# Altium schematic symbol library jlcpcb_2025_04_ferrites_extended_0402.schlib: 536 symbols (part 3 of 10)
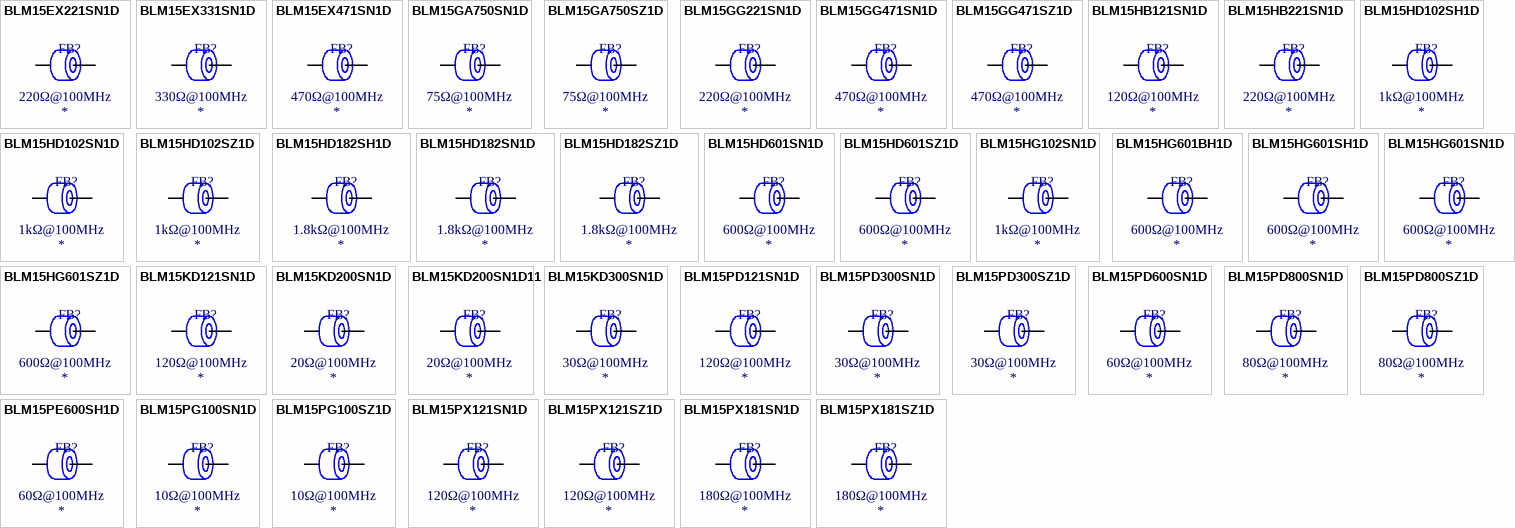
[diagram p15: symbols BLM15EX221SN1D to BLM15PX181SZ1D]

## BLM15PD600SN1D
designator FB?  Impedance @ Frequency: 60Ω@100MHz
Ferrite, 60Ω@100MHz, ±25%, 60mΩ, 1.7A, SMD 0402; Manufacturer: Murata Electronics; Manufacturer Part Number: BLM15PD600SN1D; Package Size: 0402; JLCPCB Basic Part: No; JLCPCB Part Number: C88969; Supplier 1: LCSC; Category: Ferrite Beads; Supplier Part Number 1: C88969; Tolerance: ±25%; Rated Current: 1.7A; DC Resistance: 60mΩ; RoHS: Yes; ComponentLink1Description: Datasheet; ComponentLink1URL: https://wmsc.lcsc.com/wmsc/upload/file/pdf/v2/lcsc/2304140030_Murata-Electronics-BLM15PD600SN1D_C88969.pdf; ComponentLink2Description: JLCPCB Part URL; ComponentLink2URL: https://jlcpcb.com/partdetail/C88969; ComponentLink3Description: LCSC Part URL; ComponentLink3URL: https://lcsc.com/product-detail/Ferrite-Beads_Murata-Electronics-Murata-Electronics-BLM15PD600SN1D_C88969.html
footprint FB-0402 (0402 (1005M) Ferrite)
pins: 1, 2

## BLM15PD800SN1D
designator FB?  Impedance @ Frequency: 80Ω@100MHz
Ferrite, 80Ω@100MHz, ±25%, 70mΩ, 1.5A, SMD 0402; Manufacturer: Murata Electronics; Manufacturer Part Number: BLM15PD800SN1D; Package Size: 0402; JLCPCB Basic Part: No; JLCPCB Part Number: C237347; Supplier 1: LCSC; Category: Ferrite Beads; Supplier Part Number 1: C237347; Tolerance: ±25%; Rated Current: 1.5A; DC Resistance: 70mΩ; RoHS: Yes; ComponentLink1Description: Datasheet; ComponentLink1URL: https://wmsc.lcsc.com/wmsc/upload/file/pdf/v2/lcsc/2304140030_Murata-Electronics-BLM15PD800SN1D_C237347.pdf; ComponentLink2Description: JLCPCB Part URL; ComponentLink2URL: https://jlcpcb.com/partdetail/C237347; ComponentLink3Description: LCSC Part URL; ComponentLink3URL: https://lcsc.com/product-detail/Ferrite-Beads_Murata-Electronics-Murata-Electronics-BLM15PD800SN1D_C237347.html
footprint FB-0402 (0402 (1005M) Ferrite)
pins: 1, 2

## BLM15PD800SZ1D
designator FB?  Impedance @ Frequency: 80Ω@100MHz
Ferrite, 80Ω@100MHz, ±25%, 70mΩ, 1.5A, SMD 0402; Manufacturer: Murata Electronics; Manufacturer Part Number: BLM15PD800SZ1D; Package Size: 0402; JLCPCB Basic Part: No; JLCPCB Part Number: C160972; Supplier 1: LCSC; Category: Ferrite Beads; Supplier Part Number 1: C160972; Tolerance: ±25%; Rated Current: 1.5A; DC Resistance: 70mΩ; RoHS: Yes; ComponentLink1Description: Datasheet; ComponentLink1URL: https://wmsc.lcsc.com/wmsc/upload/file/pdf/v2/lcsc/1811081513_Murata-Electronics-BLM15PD800SZ1D_C160972.pdf; ComponentLink2Description: JLCPCB Part URL; ComponentLink2URL: https://jlcpcb.com/partdetail/C160972; ComponentLink3Description: LCSC Part URL; ComponentLink3URL: https://lcsc.com/product-detail/Ferrite-Beads_Murata-Electronics-Murata-Electronics-BLM15PD800SZ1D_C160972.html
footprint FB-0402 (0402 (1005M) Ferrite)
pins: 1, 2

## BLM15PE600SH1D
designator FB?  Impedance @ Frequency: 60Ω@100MHz
Ferrite, 60Ω@100MHz, 60mΩ, SMD 0402; Manufacturer: Murata Electronics; Manufacturer Part Number: BLM15PE600SH1D; Package Size: 0402; JLCPCB Basic Part: No; JLCPCB Part Number: C3716993; Supplier 1: LCSC; Category: Ferrite Beads; Supplier Part Number 1: C3716993; DC Resistance: 60mΩ; RoHS: Yes; ComponentLink1Description: Datasheet; ComponentLink1URL: https://wmsc.lcsc.com/wmsc/upload/file/pdf/v2/lcsc/2401161242_Murata-Electronics-BLM15PE600SH1D_C3716993.pdf; ComponentLink2Description: JLCPCB Part URL; ComponentLink2URL: https://jlcpcb.com/partdetail/C3716993; ComponentLink3Description: LCSC Part URL; ComponentLink3URL: https://lcsc.com/product-detail/Ferrite-Beads_Murata-Electronics-Murata-Electronics-BLM15PE600SH1D_C3716993.html
pins: 1, 2

## BLM15PG100SN1D
designator FB?  Impedance @ Frequency: 10Ω@100MHz
Ferrite, 10Ω@100MHz, ±25%, 25mΩ, 1A, SMD 0402; Manufacturer: Murata Electronics; Manufacturer Part Number: BLM15PG100SN1D; Package Size: 0402; JLCPCB Basic Part: No; JLCPCB Part Number: C85823; Supplier 1: LCSC; Category: Ferrite Beads; Supplier Part Number 1: C85823; Tolerance: ±25%; Rated Current: 1A; DC Resistance: 25mΩ; RoHS: Yes; ComponentLink1Description: Datasheet; ComponentLink1URL: https://wmsc.lcsc.com/wmsc/upload/file/pdf/v2/lcsc/2304140030_Murata-Electronics-BLM15PG100SN1D_C85823.pdf; ComponentLink2Description: JLCPCB Part URL; ComponentLink2URL: https://jlcpcb.com/partdetail/C85823; ComponentLink3Description: LCSC Part URL; ComponentLink3URL: https://lcsc.com/product-detail/Ferrite-Beads_Murata-Electronics-Murata-Electronics-BLM15PG100SN1D_C85823.html
footprint FB-0402 (0402 (1005M) Ferrite)
pins: 1, 2

## BLM15PG100SZ1D
designator FB?  Impedance @ Frequency: 10Ω@100MHz
Ferrite, 10Ω@100MHz, ±25%, 250mΩ, 1A, SMD 0402; Manufacturer: Murata Electronics; Manufacturer Part Number: BLM15PG100SZ1D; Package Size: 0402; JLCPCB Basic Part: No; JLCPCB Part Number: C2661915; Supplier 1: LCSC; Category: Ferrite Beads; Supplier Part Number 1: C2661915; Tolerance: ±25%; Rated Current: 1A; DC Resistance: 250mΩ; RoHS: Yes; ComponentLink1Description: Datasheet; ComponentLink1URL: https://wmsc.lcsc.com/wmsc/upload/file/pdf/v2/lcsc/2304140030_Murata-Electronics-BLM15PG100SZ1D_C2661915.pdf; ComponentLink2Description: JLCPCB Part URL; ComponentLink2URL: https://jlcpcb.com/partdetail/C2661915; ComponentLink3Description: LCSC Part URL; ComponentLink3URL: https://lcsc.com/product-detail/Ferrite-Beads_Murata-Electronics-Murata-Electronics-BLM15PG100SZ1D_C2661915.html
footprint FB-0402 (0402 (1005M) Ferrite)
pins: 1, 2

## BLM15PX121SN1D
designator FB?  Impedance @ Frequency: 120Ω@100MHz
Ferrite, 120Ω@100MHz, ±25%, 55mΩ, 2A, SMD 0402; Manufacturer: Murata Electronics; Manufacturer Part Number: BLM15PX121SN1D; Package Size: 0402; JLCPCB Basic Part: No; JLCPCB Part Number: C88970; Supplier 1: LCSC; Category: Ferrite Beads; Supplier Part Number 1: C88970; Tolerance: ±25%; Rated Current: 2A; DC Resistance: 55mΩ; RoHS: Yes; ComponentLink1Description: Datasheet; ComponentLink1URL: https://wmsc.lcsc.com/wmsc/upload/file/pdf/v2/lcsc/2304140030_Murata-Electronics-BLM15PX121SN1D_C88970.pdf; ComponentLink2Description: JLCPCB Part URL; ComponentLink2URL: https://jlcpcb.com/partdetail/C88970; ComponentLink3Description: LCSC Part URL; ComponentLink3URL: https://lcsc.com/product-detail/Ferrite-Beads_Murata-Electronics-Murata-Electronics-BLM15PX121SN1D_C88970.html
footprint FB-0402 (0402 (1005M) Ferrite)
pins: 1, 2

## BLM15PX121SZ1D
designator FB?  Impedance @ Frequency: 120Ω@100MHz
Ferrite, 120Ω@100MHz, ±25%, 55mΩ, 2A, SMD 0402; Manufacturer: Murata Electronics; Manufacturer Part Number: BLM15PX121SZ1D; Package Size: 0402; JLCPCB Basic Part: No; JLCPCB Part Number: C701266; Supplier 1: LCSC; Category: Ferrite Beads; Supplier Part Number 1: C701266; Tolerance: ±25%; Rated Current: 2A; DC Resistance: 55mΩ; RoHS: Yes; ComponentLink1Description: Datasheet; ComponentLink1URL: https://wmsc.lcsc.com/wmsc/upload/file/pdf/v2/lcsc/2304140030_Murata-Electronics-BLM15PX121SZ1D_C701266.pdf; ComponentLink2Description: JLCPCB Part URL; ComponentLink2URL: https://jlcpcb.com/partdetail/C701266; ComponentLink3Description: LCSC Part URL; ComponentLink3URL: https://lcsc.com/product-detail/Ferrite-Beads_Murata-Electronics-Murata-Electronics-BLM15PX121SZ1D_C701266.html
footprint FB-0402 (0402 (1005M) Ferrite)
pins: 1, 2

## BLM15PX181SN1D
designator FB?  Impedance @ Frequency: 180Ω@100MHz
Ferrite, 180Ω@100MHz, ±25%, 90mΩ, 1.5A, SMD 0402; Manufacturer: Murata Electronics; Manufacturer Part Number: BLM15PX181SN1D; Package Size: 0402; JLCPCB Basic Part: No; JLCPCB Part Number: C237601; Supplier 1: LCSC; Category: Ferrite Beads; Supplier Part Number 1: C237601; Tolerance: ±25%; Rated Current: 1.5A; DC Resistance: 90mΩ; RoHS: Yes; ComponentLink1Description: Datasheet; ComponentLink1URL: https://wmsc.lcsc.com/wmsc/upload/file/pdf/v2/lcsc/2304140030_Murata-Electronics-BLM15PX181SN1D_C237601.pdf; ComponentLink2Description: JLCPCB Part URL; ComponentLink2URL: https://jlcpcb.com/partdetail/C237601; ComponentLink3Description: LCSC Part URL; ComponentLink3URL: https://lcsc.com/product-detail/Ferrite-Beads_Murata-Electronics-Murata-Electronics-BLM15PX181SN1D_C237601.html
footprint FB-0402 (0402 (1005M) Ferrite)
pins: 1, 2

## BLM15PX181SZ1D
designator FB?  Impedance @ Frequency: 180Ω@100MHz
Ferrite, 180Ω@100MHz, 90mΩ, 1.5A, SMD 0402; Manufacturer: Murata Electronics; Manufacturer Part Number: BLM15PX181SZ1D; Package Size: 0402; JLCPCB Basic Part: No; JLCPCB Part Number: C560034; Supplier 1: LCSC; Category: Ferrite Beads; Supplier Part Number 1: C560034; Rated Current: 1.5A; DC Resistance: 90mΩ; RoHS: Yes; ComponentLink1Description: Datasheet; ComponentLink1URL: https://wmsc.lcsc.com/wmsc/upload/file/pdf/v2/lcsc/2308111441_Murata-Electronics-BLM15PX181SZ1D_C560034.pdf; ComponentLink2Description: JLCPCB Part URL; ComponentLink2URL: https://jlcpcb.com/partdetail/C560034; ComponentLink3Description: LCSC Part URL; ComponentLink3URL: https://lcsc.com/product-detail/Ferrite-Beads_Murata-Electronics-Murata-Electronics-BLM15PX181SZ1D_C560034.html
pins: 1, 2

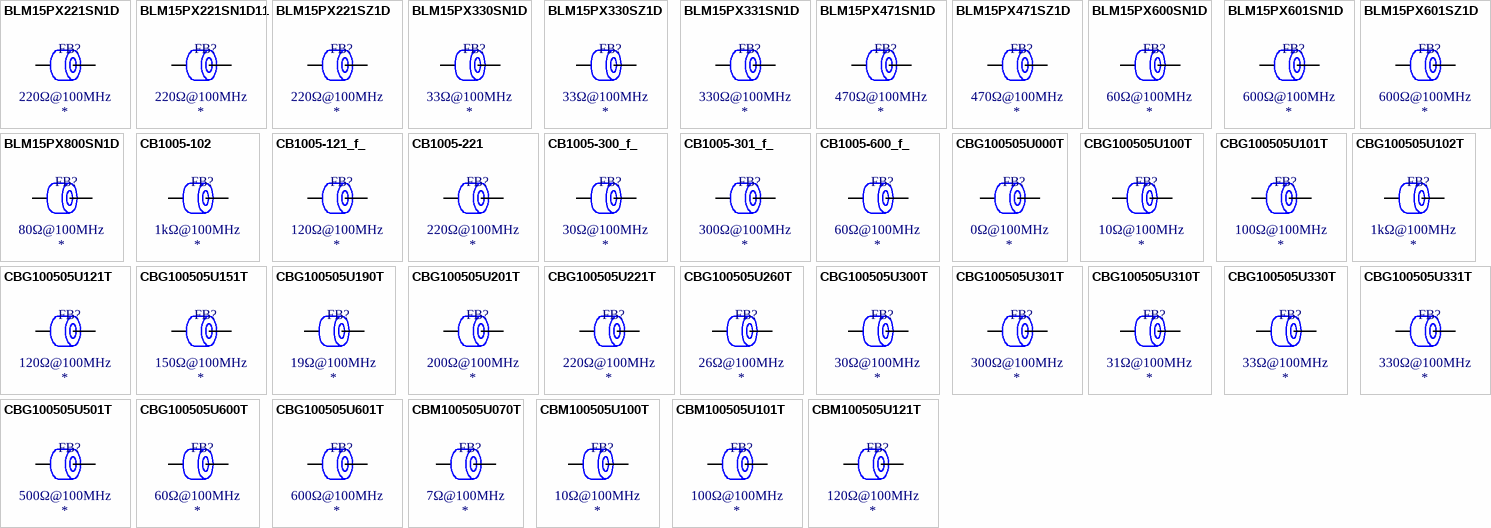
[diagram p3: symbols BLM15PX221SN1D to CBM100505U121T]

## BLM15PX221SN1D
designator FB?  Impedance @ Frequency: 220Ω@100MHz
Ferrite, 220Ω@100MHz, ±25%, 100mΩ, 1.4A, SMD 0402; Manufacturer: Murata Electronics; Manufacturer Part Number: BLM15PX221SN1D; Package Size: 0402; JLCPCB Basic Part: No; JLCPCB Part Number: C160973; Supplier 1: LCSC; Category: Ferrite Beads; Supplier Part Number 1: C160973; Tolerance: ±25%; Rated Current: 1.4A; DC Resistance: 100mΩ; RoHS: Yes; ComponentLink1Description: Datasheet; ComponentLink1URL: https://wmsc.lcsc.com/wmsc/upload/file/pdf/v2/lcsc/1811081514_Murata-Electronics-BLM15PX221SN1D_C160973.pdf; ComponentLink2Description: JLCPCB Part URL; ComponentLink2URL: https://jlcpcb.com/partdetail/C160973; ComponentLink3Description: LCSC Part URL; ComponentLink3URL: https://lcsc.com/product-detail/Ferrite-Beads_Murata-Electronics-Murata-Electronics-BLM15PX221SN1D_C160973.html
footprint FB-0402 (0402 (1005M) Ferrite)
pins: 1, 2

## BLM15PX221SN1D11
designator FB?  Impedance @ Frequency: 220Ω@100MHz
Ferrite, 220Ω@100MHz, ±25%, 100mΩ, 1.4A, SMD 0402; Manufacturer: Murata Electronics; Manufacturer Part Number: BLM15PX221SN1D11; Package Size: 0402; JLCPCB Basic Part: No; JLCPCB Part Number: C560059; Supplier 1: LCSC; Category: Ferrite Beads; Supplier Part Number 1: C560059; Tolerance: ±25%; Rated Current: 1.4A; DC Resistance: 100mΩ; RoHS: Yes; ComponentLink1Description: Datasheet; ComponentLink1URL: https://wmsc.lcsc.com/wmsc/upload/file/pdf/v2/lcsc/2304140030_Murata-Electronics-BLM15PX221SN1D11_C560059.pdf; ComponentLink2Description: JLCPCB Part URL; ComponentLink2URL: https://jlcpcb.com/partdetail/C560059; ComponentLink3Description: LCSC Part URL; ComponentLink3URL: https://lcsc.com/product-detail/Ferrite-Beads_Murata-Electronics-Murata-Electronics-BLM15PX221SN1D11_C560059.html
footprint FB-0402 (0402 (1005M) Ferrite)
pins: 1, 2

## BLM15PX221SZ1D
designator FB?  Impedance @ Frequency: 220Ω@100MHz
Ferrite, 220Ω@100MHz, ±25%, 100mΩ, 1.4A, SMD 0402; Manufacturer: Murata Electronics; Manufacturer Part Number: BLM15PX221SZ1D; Package Size: 0402; JLCPCB Basic Part: No; JLCPCB Part Number: C560050; Supplier 1: LCSC; Category: Ferrite Beads; Supplier Part Number 1: C560050; Tolerance: ±25%; Rated Current: 1.4A; DC Resistance: 100mΩ; RoHS: Yes; ComponentLink1Description: Datasheet; ComponentLink1URL: https://wmsc.lcsc.com/wmsc/upload/file/pdf/v2/lcsc/2304140030_Murata-Electronics-BLM15PX221SZ1D_C560050.pdf; ComponentLink2Description: JLCPCB Part URL; ComponentLink2URL: https://jlcpcb.com/partdetail/C560050; ComponentLink3Description: LCSC Part URL; ComponentLink3URL: https://lcsc.com/product-detail/Ferrite-Beads_Murata-Electronics-Murata-Electronics-BLM15PX221SZ1D_C560050.html
footprint FB-0402 (0402 (1005M) Ferrite)
pins: 1, 2

## BLM15PX330SN1D
designator FB?  Impedance @ Frequency: 33Ω@100MHz
Ferrite, 33Ω@100MHz, ±25%, 22mΩ, 3A, SMD 0402; Manufacturer: Murata Electronics; Manufacturer Part Number: BLM15PX330SN1D; Package Size: 0402; JLCPCB Basic Part: No; JLCPCB Part Number: C160974; Supplier 1: LCSC; Category: Ferrite Beads; Supplier Part Number 1: C160974; Tolerance: ±25%; Rated Current: 3A; DC Resistance: 22mΩ; RoHS: Yes; ComponentLink1Description: Datasheet; ComponentLink1URL: https://wmsc.lcsc.com/wmsc/upload/file/pdf/v2/lcsc/2302071130_Murata-Electronics-BLM15PX330SN1D_C160974.pdf; ComponentLink2Description: JLCPCB Part URL; ComponentLink2URL: https://jlcpcb.com/partdetail/C160974; ComponentLink3Description: LCSC Part URL; ComponentLink3URL: https://lcsc.com/product-detail/Ferrite-Beads_Murata-Electronics-Murata-Electronics-BLM15PX330SN1D_C160974.html
footprint FB-0402 (0402 (1005M) Ferrite)
pins: 1, 2

## BLM15PX330SZ1D
designator FB?  Impedance @ Frequency: 33Ω@100MHz
Ferrite, 33Ω@100MHz, ±25%, 22mΩ, 3A, SMD 0402; Manufacturer: Murata Electronics; Manufacturer Part Number: BLM15PX330SZ1D; Package Size: 0402; JLCPCB Basic Part: No; JLCPCB Part Number: C2661673; Supplier 1: LCSC; Category: Ferrite Beads; Supplier Part Number 1: C2661673; Tolerance: ±25%; Rated Current: 3A; DC Resistance: 22mΩ; RoHS: Yes; ComponentLink1Description: Datasheet; ComponentLink1URL: https://wmsc.lcsc.com/wmsc/upload/file/pdf/v2/lcsc/2304140030_Murata-Electronics-BLM15PX330SZ1D_C2661673.pdf; ComponentLink2Description: JLCPCB Part URL; ComponentLink2URL: https://jlcpcb.com/partdetail/C2661673; ComponentLink3Description: LCSC Part URL; ComponentLink3URL: https://lcsc.com/product-detail/Ferrite-Beads_Murata-Electronics-Murata-Electronics-BLM15PX330SZ1D_C2661673.html
footprint FB-0402 (0402 (1005M) Ferrite)
pins: 1, 2

## BLM15PX331SN1D
designator FB?  Impedance @ Frequency: 330Ω@100MHz
Ferrite, 330Ω@100MHz, ±25%, 150mΩ, 1.2A, SMD 0402; Manufacturer: Murata Electronics; Manufacturer Part Number: BLM15PX331SN1D; Package Size: 0402; JLCPCB Basic Part: No; JLCPCB Part Number: C160975; Supplier 1: LCSC; Category: Ferrite Beads; Supplier Part Number 1: C160975; Tolerance: ±25%; Rated Current: 1.2A; DC Resistance: 150mΩ; RoHS: Yes; ComponentLink1Description: Datasheet; ComponentLink1URL: https://wmsc.lcsc.com/wmsc/upload/file/pdf/v2/lcsc/2304140030_Murata-Electronics-BLM15PX331SN1D_C160975.pdf; ComponentLink2Description: JLCPCB Part URL; ComponentLink2URL: https://jlcpcb.com/partdetail/C160975; ComponentLink3Description: LCSC Part URL; ComponentLink3URL: https://lcsc.com/product-detail/Ferrite-Beads_Murata-Electronics-Murata-Electronics-BLM15PX331SN1D_C160975.html
footprint FB-0402 (0402 (1005M) Ferrite)
pins: 1, 2

## BLM15PX471SN1D
designator FB?  Impedance @ Frequency: 470Ω@100MHz
Ferrite, 470Ω@100MHz, ±25%, 200mΩ, 1A, SMD 0402; Manufacturer: Murata Electronics; Manufacturer Part Number: BLM15PX471SN1D; Package Size: 0402; JLCPCB Basic Part: No; JLCPCB Part Number: C333978; Supplier 1: LCSC; Category: Ferrite Beads; Supplier Part Number 1: C333978; Tolerance: ±25%; Rated Current: 1A; DC Resistance: 200mΩ; RoHS: Yes; ComponentLink1Description: Datasheet; ComponentLink1URL: https://wmsc.lcsc.com/wmsc/upload/file/pdf/v2/lcsc/1912111437_Murata-Electronics-BLM15PX471SN1D_C333978.pdf; ComponentLink2Description: JLCPCB Part URL; ComponentLink2URL: https://jlcpcb.com/partdetail/C333978; ComponentLink3Description: LCSC Part URL; ComponentLink3URL: https://lcsc.com/product-detail/Ferrite-Beads_Murata-Electronics-Murata-Electronics-BLM15PX471SN1D_C333978.html
footprint FB-0402 (0402 (1005M) Ferrite)
pins: 1, 2

## BLM15PX471SZ1D
designator FB?  Impedance @ Frequency: 470Ω@100MHz
Ferrite, 470Ω@100MHz, ±25%, 200mΩ, 1A, SMD 0402; Manufacturer: Murata Electronics; Manufacturer Part Number: BLM15PX471SZ1D; Package Size: 0402; JLCPCB Basic Part: No; JLCPCB Part Number: C710346; Supplier 1: LCSC; Category: Ferrite Beads; Supplier Part Number 1: C710346; Tolerance: ±25%; Rated Current: 1A; DC Resistance: 200mΩ; RoHS: Yes; ComponentLink1Description: Datasheet; ComponentLink1URL: https://wmsc.lcsc.com/wmsc/upload/file/pdf/v2/lcsc/2012231244_Murata-Electronics-BLM15PX471SZ1D_C710346.pdf; ComponentLink2Description: JLCPCB Part URL; ComponentLink2URL: https://jlcpcb.com/partdetail/C710346; ComponentLink3Description: LCSC Part URL; ComponentLink3URL: https://lcsc.com/product-detail/Ferrite-Beads_Murata-Electronics-Murata-Electronics-BLM15PX471SZ1D_C710346.html
footprint FB-0402 (0402 (1005M) Ferrite)
pins: 1, 2

## BLM15PX600SN1D
designator FB?  Impedance @ Frequency: 60Ω@100MHz
Ferrite, 60Ω@100MHz, ±25%, 32mΩ, 2.5A, SMD 0402; Manufacturer: Murata Electronics; Manufacturer Part Number: BLM15PX600SN1D; Package Size: 0402; JLCPCB Basic Part: No; JLCPCB Part Number: C160976; Supplier 1: LCSC; Category: Ferrite Beads; Supplier Part Number 1: C160976; Tolerance: ±25%; Rated Current: 2.5A; DC Resistance: 32mΩ; RoHS: Yes; ComponentLink1Description: Datasheet; ComponentLink1URL: https://wmsc.lcsc.com/wmsc/upload/file/pdf/v2/lcsc/2304140030_Murata-Electronics-BLM15PX600SN1D_C160976.pdf; ComponentLink2Description: JLCPCB Part URL; ComponentLink2URL: https://jlcpcb.com/partdetail/C160976; ComponentLink3Description: LCSC Part URL; ComponentLink3URL: https://lcsc.com/product-detail/Ferrite-Beads_Murata-Electronics-Murata-Electronics-BLM15PX600SN1D_C160976.html
footprint FB-0402 (0402 (1005M) Ferrite)
pins: 1, 2

## BLM15PX601SN1D
designator FB?  Impedance @ Frequency: 600Ω@100MHz
Ferrite, 600Ω@100MHz, ±25%, 230mΩ, 900mA, SMD 0402; Manufacturer: Murata Electronics; Manufacturer Part Number: BLM15PX601SN1D; Package Size: 0402; JLCPCB Basic Part: No; JLCPCB Part Number: C160977; Supplier 1: LCSC; Category: Ferrite Beads; Supplier Part Number 1: C160977; Tolerance: ±25%; Rated Current: 900mA; DC Resistance: 230mΩ; RoHS: Yes; ComponentLink1Description: Datasheet; ComponentLink1URL: https://wmsc.lcsc.com/wmsc/upload/file/pdf/v2/lcsc/2304140030_Murata-Electronics-BLM15PX601SN1D_C160977.pdf; ComponentLink2Description: JLCPCB Part URL; ComponentLink2URL: https://jlcpcb.com/partdetail/C160977; ComponentLink3Description: LCSC Part URL; ComponentLink3URL: https://lcsc.com/product-detail/Ferrite-Beads_Murata-Electronics-Murata-Electronics-BLM15PX601SN1D_C160977.html
footprint FB-0402 (0402 (1005M) Ferrite)
pins: 1, 2

## BLM15PX601SZ1D
designator FB?  Impedance @ Frequency: 600Ω@100MHz
Ferrite, 600Ω@100MHz, ±25%, 230mΩ, 900mA, SMD 0402; Manufacturer: Murata Electronics; Manufacturer Part Number: BLM15PX601SZ1D; Package Size: 0402; JLCPCB Basic Part: No; JLCPCB Part Number: C710347; Supplier 1: LCSC; Category: Ferrite Beads; Supplier Part Number 1: C710347; Tolerance: ±25%; Rated Current: 900mA; DC Resistance: 230mΩ; RoHS: Yes; ComponentLink1Description: Datasheet; ComponentLink1URL: https://wmsc.lcsc.com/wmsc/upload/file/pdf/v2/lcsc/2304140030_Murata-Electronics-BLM15PX601SZ1D_C710347.pdf; ComponentLink2Description: JLCPCB Part URL; ComponentLink2URL: https://jlcpcb.com/partdetail/C710347; ComponentLink3Description: LCSC Part URL; ComponentLink3URL: https://lcsc.com/product-detail/Ferrite-Beads_Murata-Electronics-Murata-Electronics-BLM15PX601SZ1D_C710347.html
footprint FB-0402 (0402 (1005M) Ferrite)
pins: 1, 2

## BLM15PX800SN1D
designator FB?  Impedance @ Frequency: 80Ω@100MHz
Ferrite, 80Ω@100MHz, ±25%, 38mΩ, 2.3A, SMD 0402; Manufacturer: Murata Electronics; Manufacturer Part Number: BLM15PX800SN1D; Package Size: 0402; JLCPCB Basic Part: No; JLCPCB Part Number: C160978; Supplier 1: LCSC; Category: Ferrite Beads; Supplier Part Number 1: C160978; Tolerance: ±25%; Rated Current: 2.3A; DC Resistance: 38mΩ; RoHS: Yes; ComponentLink1Description: Datasheet; ComponentLink1URL: https://wmsc.lcsc.com/wmsc/upload/file/pdf/v2/lcsc/1811081543_Murata-Electronics-BLM15PX800SN1D_C160978.pdf; ComponentLink2Description: JLCPCB Part URL; ComponentLink2URL: https://jlcpcb.com/partdetail/C160978; ComponentLink3Description: LCSC Part URL; ComponentLink3URL: https://lcsc.com/product-detail/Ferrite-Beads_Murata-Electronics-Murata-Electronics-BLM15PX800SN1D_C160978.html
footprint FB-0402 (0402 (1005M) Ferrite)
pins: 1, 2

## CB1005-102
designator FB?  Impedance @ Frequency: 1kΩ@100MHz
Ferrite, 1kΩ@100MHz, ±25%, 1.6Ω, 50mA, SMD 0402; Manufacturer: CEC(Shenzhen Zhenhua Fu Elec); Manufacturer Part Number: CB1005-102; Package Size: 0402; JLCPCB Basic Part: No; JLCPCB Part Number: C316271; Supplier 1: LCSC; Category: Ferrite Beads; Supplier Part Number 1: C316271; Tolerance: ±25%; Rated Current: 50mA; DC Resistance: 1.6Ω; RoHS: Yes; ComponentLink1Description: Datasheet; ComponentLink1URL: https://wmsc.lcsc.com/wmsc/upload/file/pdf/v2/lcsc/2304140030_CEC-Shenzhen-Zhenhua-Fu-Elec-CB1005-102_C316271.pdf; ComponentLink2Description: JLCPCB Part URL; ComponentLink2URL: https://jlcpcb.com/partdetail/C316271; ComponentLink3Description: LCSC Part URL; ComponentLink3URL: https://lcsc.com/product-detail/Ferrite-Beads_CECShenzhen-Zhenhua-Fu-Elec-CECShenzhen-Zhenhua-Fu-Elec-CB1005-102_C316271.html
footprint FB-0402 (0402 (1005M) Ferrite)
pins: 1, 2

## CB1005-121_f_
designator FB?  Impedance @ Frequency: 120Ω@100MHz
Ferrite, 120Ω@100MHz, ±25%, SMD 0402; Manufacturer: CEC(Shenzhen Zhenhua Fu Elec); Manufacturer Part Number: CB1005-121(f); Package Size: 0402; JLCPCB Basic Part: No; JLCPCB Part Number: C316270; Supplier 1: LCSC; Category: Ferrite Beads; Supplier Part Number 1: C316270; Tolerance: ±25%; RoHS: Yes; ComponentLink1Description: Datasheet; ComponentLink1URL: https://wmsc.lcsc.com/wmsc/upload/file/pdf/v2/lcsc/2304140030_CEC-Shenzhen-Zhenhua-Fu-Elec-CB1005-121-f_C316270.pdf; ComponentLink2Description: JLCPCB Part URL; ComponentLink2URL: https://jlcpcb.com/partdetail/C316270; ComponentLink3Description: LCSC Part URL; ComponentLink3URL: https://lcsc.com/product-detail/Ferrite-Beads_CECShenzhen-Zhenhua-Fu-Elec-CECShenzhen-Zhenhua-Fu-Elec-CB1005-121f_C316270.html
pins: 1, 2

## CB1005-221
designator FB?  Impedance @ Frequency: 220Ω@100MHz
Ferrite, 220Ω@100MHz, ±25%, 650mΩ, 120mA, SMD 0402; Manufacturer: CEC(Shenzhen Zhenhua Fu Elec); Manufacturer Part Number: CB1005-221; Package Size: 0402; JLCPCB Basic Part: No; JLCPCB Part Number: C316269; Supplier 1: LCSC; Category: Ferrite Beads; Supplier Part Number 1: C316269; Tolerance: ±25%; Rated Current: 120mA; DC Resistance: 650mΩ; RoHS: Yes; ComponentLink1Description: Datasheet; ComponentLink1URL: https://wmsc.lcsc.com/wmsc/upload/file/pdf/v2/lcsc/2304140030_CEC-Shenzhen-Zhenhua-Fu-Elec-CB1005-221_C316269.pdf; ComponentLink2Description: JLCPCB Part URL; ComponentLink2URL: https://jlcpcb.com/partdetail/C316269; ComponentLink3Description: LCSC Part URL; ComponentLink3URL: https://lcsc.com/product-detail/Ferrite-Beads_CECShenzhen-Zhenhua-Fu-Elec-CECShenzhen-Zhenhua-Fu-Elec-CB1005-221_C316269.html
footprint FB-0402 (0402 (1005M) Ferrite)
pins: 1, 2

## CB1005-300_f_
designator FB?  Impedance @ Frequency: 30Ω@100MHz
Ferrite, 30Ω@100MHz, ±25%, 200mΩ, 300mA, SMD 0402; Manufacturer: CEC(Shenzhen Zhenhua Fu Elec); Manufacturer Part Number: CB1005-300(f); Package Size: 0402; JLCPCB Basic Part: No; JLCPCB Part Number: C316268; Supplier 1: LCSC; Category: Ferrite Beads; Supplier Part Number 1: C316268; Tolerance: ±25%; Rated Current: 300mA; DC Resistance: 200mΩ; RoHS: Yes; ComponentLink1Description: Datasheet; ComponentLink1URL: https://wmsc.lcsc.com/wmsc/upload/file/pdf/v2/lcsc/2304140030_CEC-Shenzhen-Zhenhua-Fu-Elec-CB1005-300-f_C316268.pdf; ComponentLink2Description: JLCPCB Part URL; ComponentLink2URL: https://jlcpcb.com/partdetail/C316268; ComponentLink3Description: LCSC Part URL; ComponentLink3URL: https://lcsc.com/product-detail/Ferrite-Beads_CECShenzhen-Zhenhua-Fu-Elec-CECShenzhen-Zhenhua-Fu-Elec-CB1005-300f_C316268.html
footprint FB-0402 (0402 (1005M) Ferrite)
pins: 1, 2

## CB1005-301_f_
designator FB?  Impedance @ Frequency: 300Ω@100MHz
Ferrite, 300Ω@100MHz, ±25%, 700mΩ, 100mA, SMD 0402; Manufacturer: CEC(Shenzhen Zhenhua Fu Elec); Manufacturer Part Number: CB1005-301(f); Package Size: 0402; JLCPCB Basic Part: No; JLCPCB Part Number: C361683; Supplier 1: LCSC; Category: Ferrite Beads; Supplier Part Number 1: C361683; Tolerance: ±25%; Rated Current: 100mA; DC Resistance: 700mΩ; RoHS: Yes; ComponentLink1Description: Datasheet; ComponentLink1URL: https://wmsc.lcsc.com/wmsc/upload/file/pdf/v2/lcsc/2304140030_CEC-Shenzhen-Zhenhua-Fu-Elec-CB1005-301-f_C361683.pdf; ComponentLink2Description: JLCPCB Part URL; ComponentLink2URL: https://jlcpcb.com/partdetail/C361683; ComponentLink3Description: LCSC Part URL; ComponentLink3URL: https://lcsc.com/product-detail/Ferrite-Beads_CECShenzhen-Zhenhua-Fu-Elec-CECShenzhen-Zhenhua-Fu-Elec-CB1005-301f_C361683.html
footprint FB-0402 (0402 (1005M) Ferrite)
pins: 1, 2

## CB1005-600_f_
designator FB?  Impedance @ Frequency: 60Ω@100MHz
Ferrite, 60Ω@100MHz, ±25%, 300mΩ, 200mA, SMD 0402; Manufacturer: CEC(Shenzhen Zhenhua Fu Elec); Manufacturer Part Number: CB1005-600(f); Package Size: 0402; JLCPCB Basic Part: No; JLCPCB Part Number: C316267; Supplier 1: LCSC; Category: Ferrite Beads; Supplier Part Number 1: C316267; Tolerance: ±25%; Rated Current: 200mA; DC Resistance: 300mΩ; RoHS: Yes; ComponentLink1Description: Datasheet; ComponentLink1URL: https://wmsc.lcsc.com/wmsc/upload/file/pdf/v2/lcsc/2304140030_CEC-Shenzhen-Zhenhua-Fu-Elec-CB1005-600-f_C316267.pdf; ComponentLink2Description: JLCPCB Part URL; ComponentLink2URL: https://jlcpcb.com/partdetail/C316267; ComponentLink3Description: LCSC Part URL; ComponentLink3URL: https://lcsc.com/product-detail/Ferrite-Beads_CECShenzhen-Zhenhua-Fu-Elec-CECShenzhen-Zhenhua-Fu-Elec-CB1005-600f_C316267.html
footprint FB-0402 (0402 (1005M) Ferrite)
pins: 1, 2

## CBG100505U000T
designator FB?  Impedance @ Frequency: 0Ω@100MHz
Ferrite, 0Ω@100MHz, 100mΩ, 300mA, SMD 0402; Manufacturer: FH(Guangdong Fenghua Advanced Tech); Manufacturer Part Number: CBG100505U000T; Package Size: 0402; JLCPCB Basic Part: No; JLCPCB Part Number: C139137; Supplier 1: LCSC; Category: Ferrite Beads; Supplier Part Number 1: C139137; Rated Current: 300mA; DC Resistance: 100mΩ; RoHS: Yes; ComponentLink1Description: Datasheet; ComponentLink1URL: https://wmsc.lcsc.com/wmsc/upload/file/pdf/v2/lcsc/2304140030_FH--Guangdong-Fenghua-Advanced-Tech-CBG100505U000T_C139137.pdf; ComponentLink2Description: JLCPCB Part URL; ComponentLink2URL: https://jlcpcb.com/partdetail/C139137; ComponentLink3Description: LCSC Part URL; ComponentLink3URL: https://lcsc.com/product-detail/Ferrite-Beads_FH-Guangdong-Fenghua-Advanced-Tech-FH-Guangdong-Fenghua-Advanced-Tech-CBG100505U000T_C139137.html
pins: 1, 2

## CBG100505U100T
designator FB?  Impedance @ Frequency: 10Ω@100MHz
Ferrite, 10Ω@100MHz, 100mΩ, 300mA, SMD 0402; Manufacturer: FH(Guangdong Fenghua Advanced Tech); Manufacturer Part Number: CBG100505U100T; Package Size: 0402; JLCPCB Basic Part: No; JLCPCB Part Number: C316454; Supplier 1: LCSC; Category: Ferrite Beads; Supplier Part Number 1: C316454; Rated Current: 300mA; DC Resistance: 100mΩ; RoHS: Yes; ComponentLink1Description: Datasheet; ComponentLink1URL: https://wmsc.lcsc.com/wmsc/upload/file/pdf/v2/lcsc/1912111437_FH--Guangdong-Fenghua-Advanced-Tech-CBG100505U100T_C316454.pdf; ComponentLink2Description: JLCPCB Part URL; ComponentLink2URL: https://jlcpcb.com/partdetail/C316454; ComponentLink3Description: LCSC Part URL; ComponentLink3URL: https://lcsc.com/product-detail/Ferrite-Beads_FH-Guangdong-Fenghua-Advanced-Tech-FH-Guangdong-Fenghua-Advanced-Tech-CBG100505U100T_C316454.html
pins: 1, 2

## CBG100505U101T
designator FB?  Impedance @ Frequency: 100Ω@100MHz
Ferrite, 100Ω@100MHz, ±25%, 500mΩ, 150mA, SMD 0402; Manufacturer: FH(Guangdong Fenghua Advanced Tech); Manufacturer Part Number: CBG100505U101T; Package Size: 0402; JLCPCB Basic Part: No; JLCPCB Part Number: C139138; Supplier 1: LCSC; Category: Ferrite Beads; Supplier Part Number 1: C139138; Tolerance: ±25%; Rated Current: 150mA; DC Resistance: 500mΩ; RoHS: Yes; ComponentLink1Description: Datasheet; ComponentLink1URL: https://wmsc.lcsc.com/wmsc/upload/file/pdf/v2/lcsc/2304140030_FH--Guangdong-Fenghua-Advanced-Tech-CBG100505U101T_C139138.pdf; ComponentLink2Description: JLCPCB Part URL; ComponentLink2URL: https://jlcpcb.com/partdetail/C139138; ComponentLink3Description: LCSC Part URL; ComponentLink3URL: https://lcsc.com/product-detail/Ferrite-Beads_FH-Guangdong-Fenghua-Advanced-Tech-FH-Guangdong-Fenghua-Advanced-Tech-CBG100505U101T_C139138.html
footprint FB-0402 (0402 (1005M) Ferrite)
pins: 1, 2

## CBG100505U102T
designator FB?  Impedance @ Frequency: 1kΩ@100MHz
Ferrite, 1kΩ@100MHz, ±25%, 1.6Ω, 25mA, SMD 0402; Manufacturer: FH(Guangdong Fenghua Advanced Tech); Manufacturer Part Number: CBG100505U102T; Package Size: 0402; JLCPCB Basic Part: No; JLCPCB Part Number: C124090; Supplier 1: LCSC; Category: Ferrite Beads; Supplier Part Number 1: C124090; Tolerance: ±25%; Rated Current: 25mA; DC Resistance: 1.6Ω; RoHS: Yes; ComponentLink1Description: Datasheet; ComponentLink1URL: https://wmsc.lcsc.com/wmsc/upload/file/pdf/v2/lcsc/2304140030_FH--Guangdong-Fenghua-Advanced-Tech-CBG100505U102T_C124090.pdf; ComponentLink2Description: JLCPCB Part URL; ComponentLink2URL: https://jlcpcb.com/partdetail/C124090; ComponentLink3Description: LCSC Part URL; ComponentLink3URL: https://lcsc.com/product-detail/Ferrite-Beads_FH-Guangdong-Fenghua-Advanced-Tech-FH-Guangdong-Fenghua-Advanced-Tech-CBG100505U102T_C124090.html
footprint FB-0402 (0402 (1005M) Ferrite)
pins: 1, 2

## CBG100505U121T
designator FB?  Impedance @ Frequency: 120Ω@100MHz
Ferrite, 120Ω@100MHz, ±25%, 500mΩ, 150mA, SMD 0402; Manufacturer: FH(Guangdong Fenghua Advanced Tech); Manufacturer Part Number: CBG100505U121T; Package Size: 0402; JLCPCB Basic Part: No; JLCPCB Part Number: C92616; Supplier 1: LCSC; Category: Ferrite Beads; Supplier Part Number 1: C92616; Tolerance: ±25%; Rated Current: 150mA; DC Resistance: 500mΩ; RoHS: Yes; ComponentLink1Description: Datasheet; ComponentLink1URL: https://wmsc.lcsc.com/wmsc/upload/file/pdf/v2/lcsc/2304140030_FH--Guangdong-Fenghua-Advanced-Tech-CBG100505U121T_C92616.pdf; ComponentLink2Description: JLCPCB Part URL; ComponentLink2URL: https://jlcpcb.com/partdetail/C92616; ComponentLink3Description: LCSC Part URL; ComponentLink3URL: https://lcsc.com/product-detail/Ferrite-Beads_FH-Guangdong-Fenghua-Advanced-Tech-FH-Guangdong-Fenghua-Advanced-Tech-CBG100505U121T_C92616.html
footprint FB-0402 (0402 (1005M) Ferrite)
pins: 1, 2

## CBG100505U151T
designator FB?  Impedance @ Frequency: 150Ω@100MHz
Ferrite, 150Ω@100MHz, ±25%, 550mΩ, 150mA, SMD 0402; Manufacturer: FH(Guangdong Fenghua Advanced Tech); Manufacturer Part Number: CBG100505U151T; Package Size: 0402; JLCPCB Basic Part: No; JLCPCB Part Number: C160612; Supplier 1: LCSC; Category: Ferrite Beads; Supplier Part Number 1: C160612; Tolerance: ±25%; Rated Current: 150mA; DC Resistance: 550mΩ; RoHS: Yes; ComponentLink1Description: Datasheet; ComponentLink1URL: https://wmsc.lcsc.com/wmsc/upload/file/pdf/v2/lcsc/2304140030_FH--Guangdong-Fenghua-Advanced-Tech-CBG100505U151T_C160612.pdf; ComponentLink2Description: JLCPCB Part URL; ComponentLink2URL: https://jlcpcb.com/partdetail/C160612; ComponentLink3Description: LCSC Part URL; ComponentLink3URL: https://lcsc.com/product-detail/Ferrite-Beads_FH-Guangdong-Fenghua-Advanced-Tech-FH-Guangdong-Fenghua-Advanced-Tech-CBG100505U151T_C160612.html
footprint FB-0402 (0402 (1005M) Ferrite)
pins: 1, 2

## CBG100505U190T
designator FB?  Impedance @ Frequency: 19Ω@100MHz
Ferrite, 19Ω@100MHz, 100mΩ, 300mA, SMD 0402; Manufacturer: FH (Guangdong Fenghua Advanced Tech); Manufacturer Part Number: CBG100505U190T; Package Size: 0402; JLCPCB Basic Part: No; JLCPCB Part Number: C2991174; Supplier 1: LCSC; Category: Ferrite Beads; Supplier Part Number 1: C2991174; Rated Current: 300mA; DC Resistance: 100mΩ; RoHS: Yes; ComponentLink1Description: Datasheet; ComponentLink1URL: https://wmsc.lcsc.com/wmsc/upload/file/pdf/v2/lcsc/2204111630_FH--Guangdong-Fenghua-Advanced-Tech-CBG100505U190T_C2991174.pdf; ComponentLink2Description: JLCPCB Part URL; ComponentLink2URL: https://jlcpcb.com/partdetail/C2991174; ComponentLink3Description: LCSC Part URL; ComponentLink3URL: https://lcsc.com/product-detail/Ferrite-Beads_FH-Guangdong-Fenghua-Advanced-Tech-FH-Guangdong-Fenghua-Advanced-Tech-CBG100505U190T_C2991174.html
pins: 1, 2

## CBG100505U201T
designator FB?  Impedance @ Frequency: 200Ω@100MHz
Ferrite, 200Ω@100MHz, ±25%, 600mΩ, 100mA, SMD 0402; Manufacturer: FH(Guangdong Fenghua Advanced Tech); Manufacturer Part Number: CBG100505U201T; Package Size: 0402; JLCPCB Basic Part: No; JLCPCB Part Number: C668228; Supplier 1: LCSC; Category: Ferrite Beads; Supplier Part Number 1: C668228; Tolerance: ±25%; Rated Current: 100mA; DC Resistance: 600mΩ; RoHS: Yes; ComponentLink1Description: Datasheet; ComponentLink1URL: https://wmsc.lcsc.com/wmsc/upload/file/pdf/v2/lcsc/2304140030_FH--Guangdong-Fenghua-Advanced-Tech-CBG100505U201T_C668228.pdf; ComponentLink2Description: JLCPCB Part URL; ComponentLink2URL: https://jlcpcb.com/partdetail/C668228; ComponentLink3Description: LCSC Part URL; ComponentLink3URL: https://lcsc.com/product-detail/Ferrite-Beads_FH-Guangdong-Fenghua-Advanced-Tech-FH-Guangdong-Fenghua-Advanced-Tech-CBG100505U201T_C668228.html
footprint FB-0402 (0402 (1005M) Ferrite)
pins: 1, 2

## CBG100505U221T
designator FB?  Impedance @ Frequency: 220Ω@100MHz
Ferrite, 220Ω@100MHz, ±25%, 700mΩ, 100mA, SMD 0402; Manufacturer: FH(Guangdong Fenghua Advanced Tech); Manufacturer Part Number: CBG100505U221T; Package Size: 0402; JLCPCB Basic Part: No; JLCPCB Part Number: C92617; Supplier 1: LCSC; Category: Ferrite Beads; Supplier Part Number 1: C92617; Tolerance: ±25%; Rated Current: 100mA; DC Resistance: 700mΩ; RoHS: Yes; ComponentLink1Description: Datasheet; ComponentLink1URL: https://wmsc.lcsc.com/wmsc/upload/file/pdf/v2/lcsc/2304140030_FH--Guangdong-Fenghua-Advanced-Tech-CBG100505U221T_C92617.pdf; ComponentLink2Description: JLCPCB Part URL; ComponentLink2URL: https://jlcpcb.com/partdetail/C92617; ComponentLink3Description: LCSC Part URL; ComponentLink3URL: https://lcsc.com/product-detail/Ferrite-Beads_FH-Guangdong-Fenghua-Advanced-Tech-FH-Guangdong-Fenghua-Advanced-Tech-CBG100505U221T_C92617.html
footprint FB-0402 (0402 (1005M) Ferrite)
pins: 1, 2

## CBG100505U260T
designator FB?  Impedance @ Frequency: 26Ω@100MHz
Ferrite, 26Ω@100MHz, ±25%, 150mΩ, 300mA, SMD 0402; Manufacturer: FH(Guangdong Fenghua Advanced Tech); Manufacturer Part Number: CBG100505U260T; Package Size: 0402; JLCPCB Basic Part: No; JLCPCB Part Number: C668229; Supplier 1: LCSC; Category: Ferrite Beads; Supplier Part Number 1: C668229; Tolerance: ±25%; Rated Current: 300mA; DC Resistance: 150mΩ; RoHS: Yes; ComponentLink1Description: Datasheet; ComponentLink1URL: https://wmsc.lcsc.com/wmsc/upload/file/pdf/v2/lcsc/2304140030_FH--Guangdong-Fenghua-Advanced-Tech-CBG100505U260T_C668229.pdf; ComponentLink2Description: JLCPCB Part URL; ComponentLink2URL: https://jlcpcb.com/partdetail/C668229; ComponentLink3Description: LCSC Part URL; ComponentLink3URL: https://lcsc.com/product-detail/Ferrite-Beads_FH-Guangdong-Fenghua-Advanced-Tech-FH-Guangdong-Fenghua-Advanced-Tech-CBG100505U260T_C668229.html
footprint FB-0402 (0402 (1005M) Ferrite)
pins: 1, 2

## CBG100505U300T
designator FB?  Impedance @ Frequency: 30Ω@100MHz
Ferrite, 30Ω@100MHz, ±25%, SMD 0402; Manufacturer: FH(Guangdong Fenghua Advanced Tech); Manufacturer Part Number: CBG100505U300T; Package Size: 0402; JLCPCB Basic Part: No; JLCPCB Part Number: C92614; Supplier 1: LCSC; Category: Ferrite Beads; Supplier Part Number 1: C92614; Tolerance: ±25%; RoHS: Yes; ComponentLink1Description: Datasheet; ComponentLink1URL: https://wmsc.lcsc.com/wmsc/upload/file/pdf/v2/lcsc/2304140030_FH--Guangdong-Fenghua-Advanced-Tech-CBG100505U300T_C92614.pdf; ComponentLink2Description: JLCPCB Part URL; ComponentLink2URL: https://jlcpcb.com/partdetail/C92614; ComponentLink3Description: LCSC Part URL; ComponentLink3URL: https://lcsc.com/product-detail/Ferrite-Beads_FH-Guangdong-Fenghua-Advanced-Tech-FH-Guangdong-Fenghua-Advanced-Tech-CBG100505U300T_C92614.html
pins: 1, 2

## CBG100505U301T
designator FB?  Impedance @ Frequency: 300Ω@100MHz
Ferrite, 300Ω@100MHz, ±25%, 800mΩ, 100mA, SMD 0402; Manufacturer: FH(Guangdong Fenghua Advanced Tech); Manufacturer Part Number: CBG100505U301T; Package Size: 0402; JLCPCB Basic Part: No; JLCPCB Part Number: C124091; Supplier 1: LCSC; Category: Ferrite Beads; Supplier Part Number 1: C124091; Tolerance: ±25%; Rated Current: 100mA; DC Resistance: 800mΩ; RoHS: Yes; ComponentLink1Description: Datasheet; ComponentLink1URL: https://wmsc.lcsc.com/wmsc/upload/file/pdf/v2/lcsc/2304140030_FH--Guangdong-Fenghua-Advanced-Tech-CBG100505U301T_C124091.pdf; ComponentLink2Description: JLCPCB Part URL; ComponentLink2URL: https://jlcpcb.com/partdetail/C124091; ComponentLink3Description: LCSC Part URL; ComponentLink3URL: https://lcsc.com/product-detail/Ferrite-Beads_FH-Guangdong-Fenghua-Advanced-Tech-FH-Guangdong-Fenghua-Advanced-Tech-CBG100505U301T_C124091.html
footprint FB-0402 (0402 (1005M) Ferrite)
pins: 1, 2

## CBG100505U310T
designator FB?  Impedance @ Frequency: 31Ω@100MHz
Ferrite, 31Ω@100MHz, ±25%, 200mΩ, 300mA, SMD 0402; Manufacturer: FH(Guangdong Fenghua Advanced Tech); Manufacturer Part Number: CBG100505U310T; Package Size: 0402; JLCPCB Basic Part: No; JLCPCB Part Number: C268308; Supplier 1: LCSC; Category: Ferrite Beads; Supplier Part Number 1: C268308; Tolerance: ±25%; Rated Current: 300mA; DC Resistance: 200mΩ; RoHS: Yes; ComponentLink1Description: Datasheet; ComponentLink1URL: https://wmsc.lcsc.com/wmsc/upload/file/pdf/v2/lcsc/2304140030_FH--Guangdong-Fenghua-Advanced-Tech-CBG100505U310T_C268308.pdf; ComponentLink2Description: JLCPCB Part URL; ComponentLink2URL: https://jlcpcb.com/partdetail/C268308; ComponentLink3Description: LCSC Part URL; ComponentLink3URL: https://lcsc.com/product-detail/Ferrite-Beads_FH-Guangdong-Fenghua-Advanced-Tech-FH-Guangdong-Fenghua-Advanced-Tech-CBG100505U310T_C268308.html
footprint FB-0402 (0402 (1005M) Ferrite)
pins: 1, 2

## CBG100505U330T
designator FB?  Impedance @ Frequency: 33Ω@100MHz
Ferrite, 33Ω@100MHz, SMD 0402; Manufacturer: FH (Guangdong Fenghua Advanced Tech); Manufacturer Part Number: CBG100505U330T; Package Size: 0402; JLCPCB Basic Part: No; JLCPCB Part Number: C401504; Supplier 1: LCSC; Category: Ferrite Beads; Supplier Part Number 1: C401504; RoHS: Yes; ComponentLink1Description: Datasheet; ComponentLink2Description: JLCPCB Part URL; ComponentLink2URL: https://jlcpcb.com/partdetail/C401504; ComponentLink3Description: LCSC Part URL; ComponentLink3URL: https://lcsc.com/product-detail/Ferrite-Beads_FH-Guangdong-Fenghua-Advanced-Tech-FH-Guangdong-Fenghua-Advanced-Tech-CBG100505U330T_C401504.html
pins: 1, 2

## CBG100505U331T
designator FB?  Impedance @ Frequency: 330Ω@100MHz
Ferrite, 330Ω@100MHz, SMD 0402; Manufacturer: FH (Guangdong Fenghua Advanced Tech); Manufacturer Part Number: CBG100505U331T; Package Size: 0402; JLCPCB Basic Part: No; JLCPCB Part Number: C401503; Supplier 1: LCSC; Category: Ferrite Beads; Supplier Part Number 1: C401503; RoHS: Yes; ComponentLink1Description: Datasheet; ComponentLink2Description: JLCPCB Part URL; ComponentLink2URL: https://jlcpcb.com/partdetail/C401503; ComponentLink3Description: LCSC Part URL; ComponentLink3URL: https://lcsc.com/product-detail/Ferrite-Beads_FH-Guangdong-Fenghua-Advanced-Tech-FH-Guangdong-Fenghua-Advanced-Tech-CBG100505U331T_C401503.html
pins: 1, 2

## CBG100505U501T
designator FB?  Impedance @ Frequency: 500Ω@100MHz
Ferrite, 500Ω@100MHz, ±25%, 1.1Ω, 100mA, SMD 0402; Manufacturer: FH (Guangdong Fenghua Advanced Tech); Manufacturer Part Number: CBG100505U501T; Package Size: 0402; JLCPCB Basic Part: No; JLCPCB Part Number: C2928139; Supplier 1: LCSC; Category: Ferrite Beads; Supplier Part Number 1: C2928139; Tolerance: ±25%; Rated Current: 100mA; DC Resistance: 1.1Ω; RoHS: Yes; ComponentLink1Description: Datasheet; ComponentLink1URL: https://wmsc.lcsc.com/wmsc/upload/file/pdf/v2/lcsc/2201121330_FH--Guangdong-Fenghua-Advanced-Tech-CBG100505U501T_C2928139.pdf; ComponentLink2Description: JLCPCB Part URL; ComponentLink2URL: https://jlcpcb.com/partdetail/C2928139; ComponentLink3Description: LCSC Part URL; ComponentLink3URL: https://lcsc.com/product-detail/Ferrite-Beads_FH-Guangdong-Fenghua-Advanced-Tech-FH-Guangdong-Fenghua-Advanced-Tech-CBG100505U501T_C2928139.html
footprint FB-0402 (0402 (1005M) Ferrite)
pins: 1, 2

## CBG100505U600T
designator FB?  Impedance @ Frequency: 60Ω@100MHz
Ferrite, 60Ω@100MHz, ±25%, 350mΩ, 200mA, SMD 0402; Manufacturer: FH(Guangdong Fenghua Advanced Tech); Manufacturer Part Number: CBG100505U600T; Package Size: 0402; JLCPCB Basic Part: No; JLCPCB Part Number: C92615; Supplier 1: LCSC; Category: Ferrite Beads; Supplier Part Number 1: C92615; Tolerance: ±25%; Rated Current: 200mA; DC Resistance: 350mΩ; RoHS: Yes; ComponentLink1Description: Datasheet; ComponentLink1URL: https://wmsc.lcsc.com/wmsc/upload/file/pdf/v2/lcsc/2304140030_FH--Guangdong-Fenghua-Advanced-Tech-CBG100505U600T_C92615.pdf; ComponentLink2Description: JLCPCB Part URL; ComponentLink2URL: https://jlcpcb.com/partdetail/C92615; ComponentLink3Description: LCSC Part URL; ComponentLink3URL: https://lcsc.com/product-detail/Ferrite-Beads_FH-Guangdong-Fenghua-Advanced-Tech-FH-Guangdong-Fenghua-Advanced-Tech-CBG100505U600T_C92615.html
footprint FB-0402 (0402 (1005M) Ferrite)
pins: 1, 2

## CBG100505U601T
designator FB?  Impedance @ Frequency: 600Ω@100MHz
Ferrite, 600Ω@100MHz, ±25%, 1.3Ω, 100mA, SMD 0402; Manufacturer: FH(Guangdong Fenghua Advanced Tech); Manufacturer Part Number: CBG100505U601T; Package Size: 0402; JLCPCB Basic Part: No; JLCPCB Part Number: C92618; Supplier 1: LCSC; Category: Ferrite Beads; Supplier Part Number 1: C92618; Tolerance: ±25%; Rated Current: 100mA; DC Resistance: 1.3Ω; RoHS: Yes; ComponentLink1Description: Datasheet; ComponentLink1URL: https://wmsc.lcsc.com/wmsc/upload/file/pdf/v2/lcsc/2304140030_FH--Guangdong-Fenghua-Advanced-Tech-CBG100505U601T_C92618.pdf; ComponentLink2Description: JLCPCB Part URL; ComponentLink2URL: https://jlcpcb.com/partdetail/C92618; ComponentLink3Description: LCSC Part URL; ComponentLink3URL: https://lcsc.com/product-detail/Ferrite-Beads_FH-Guangdong-Fenghua-Advanced-Tech-FH-Guangdong-Fenghua-Advanced-Tech-CBG100505U601T_C92618.html
footprint FB-0402 (0402 (1005M) Ferrite)
pins: 1, 2

## CBM100505U070T
designator FB?  Impedance @ Frequency: 7Ω@100MHz
Ferrite, 7Ω@100MHz, 50mΩ, 1.8A, SMD 0402; Manufacturer: FH(Guangdong Fenghua Advanced Tech); Manufacturer Part Number: CBM100505U070T; Package Size: 0402; JLCPCB Basic Part: No; JLCPCB Part Number: C394396; Supplier 1: LCSC; Category: Ferrite Beads; Supplier Part Number 1: C394396; Rated Current: 1.8A; DC Resistance: 50mΩ; RoHS: Yes; ComponentLink1Description: Datasheet; ComponentLink1URL: https://wmsc.lcsc.com/wmsc/upload/file/pdf/v2/lcsc/2304140030_FH--Guangdong-Fenghua-Advanced-Tech-CBM100505U070T_C394396.pdf; ComponentLink2Description: JLCPCB Part URL; ComponentLink2URL: https://jlcpcb.com/partdetail/C394396; ComponentLink3Description: LCSC Part URL; ComponentLink3URL: https://lcsc.com/product-detail/Ferrite-Beads_FH-Guangdong-Fenghua-Advanced-Tech-FH-Guangdong-Fenghua-Advanced-Tech-CBM100505U070T_C394396.html
pins: 1, 2

## CBM100505U100T
designator FB?  Impedance @ Frequency: 10Ω@100MHz
Ferrite, 10Ω@100MHz, ±25%, SMD 0402; Manufacturer: FH(Guangdong Fenghua Advanced Tech); Manufacturer Part Number: CBM100505U100T; Package Size: 0402; JLCPCB Basic Part: No; JLCPCB Part Number: C394397; Supplier 1: LCSC; Category: Ferrite Beads; Supplier Part Number 1: C394397; Tolerance: ±25%; RoHS: Yes; ComponentLink1Description: Datasheet; ComponentLink1URL: https://wmsc.lcsc.com/wmsc/upload/file/pdf/v2/lcsc/1912111437_FH--Guangdong-Fenghua-Advanced-Tech-CBM100505U100T_C394397.pdf; ComponentLink2Description: JLCPCB Part URL; ComponentLink2URL: https://jlcpcb.com/partdetail/C394397; ComponentLink3Description: LCSC Part URL; ComponentLink3URL: https://lcsc.com/product-detail/Ferrite-Beads_FH-Guangdong-Fenghua-Advanced-Tech-FH-Guangdong-Fenghua-Advanced-Tech-CBM100505U100T_C394397.html
pins: 1, 2

## CBM100505U101T
designator FB?  Impedance @ Frequency: 100Ω@100MHz
Ferrite, 100Ω@100MHz, ±25%, 150mΩ, 800mA, SMD 0402; Manufacturer: FH(Guangdong Fenghua Advanced Tech); Manufacturer Part Number: CBM100505U101T; Package Size: 0402; JLCPCB Basic Part: No; JLCPCB Part Number: C394398; Supplier 1: LCSC; Category: Ferrite Beads; Supplier Part Number 1: C394398; Tolerance: ±25%; Rated Current: 800mA; DC Resistance: 150mΩ; RoHS: Yes; ComponentLink1Description: Datasheet; ComponentLink1URL: https://wmsc.lcsc.com/wmsc/upload/file/pdf/v2/lcsc/2304140030_FH--Guangdong-Fenghua-Advanced-Tech-CBM100505U101T_C394398.pdf; ComponentLink2Description: JLCPCB Part URL; ComponentLink2URL: https://jlcpcb.com/partdetail/C394398; ComponentLink3Description: LCSC Part URL; ComponentLink3URL: https://lcsc.com/product-detail/Ferrite-Beads_FH-Guangdong-Fenghua-Advanced-Tech-FH-Guangdong-Fenghua-Advanced-Tech-CBM100505U101T_C394398.html
footprint FB-0402 (0402 (1005M) Ferrite)
pins: 1, 2

## CBM100505U121T
designator FB?  Impedance @ Frequency: 120Ω@100MHz
Ferrite, 120Ω@100MHz, ±25%, 150mΩ, 800mA, SMD 0402; Manufacturer: FH(Guangdong Fenghua Advanced Tech); Manufacturer Part Number: CBM100505U121T; Package Size: 0402; JLCPCB Basic Part: No; JLCPCB Part Number: C316452; Supplier 1: LCSC; Category: Ferrite Beads; Supplier Part Number 1: C316452; Tolerance: ±25%; Rated Current: 800mA; DC Resistance: 150mΩ; RoHS: Yes; ComponentLink1Description: Datasheet; ComponentLink1URL: https://wmsc.lcsc.com/wmsc/upload/file/pdf/v2/lcsc/1811141623_FH--Guangdong-Fenghua-Advanced-Tech-CBM100505U121T_C316452.pdf; ComponentLink2Description: JLCPCB Part URL; ComponentLink2URL: https://jlcpcb.com/partdetail/C316452; ComponentLink3Description: LCSC Part URL; ComponentLink3URL: https://lcsc.com/product-detail/Ferrite-Beads_FH-Guangdong-Fenghua-Advanced-Tech-FH-Guangdong-Fenghua-Advanced-Tech-CBM100505U121T_C316452.html
footprint FB-0402 (0402 (1005M) Ferrite)
pins: 1, 2

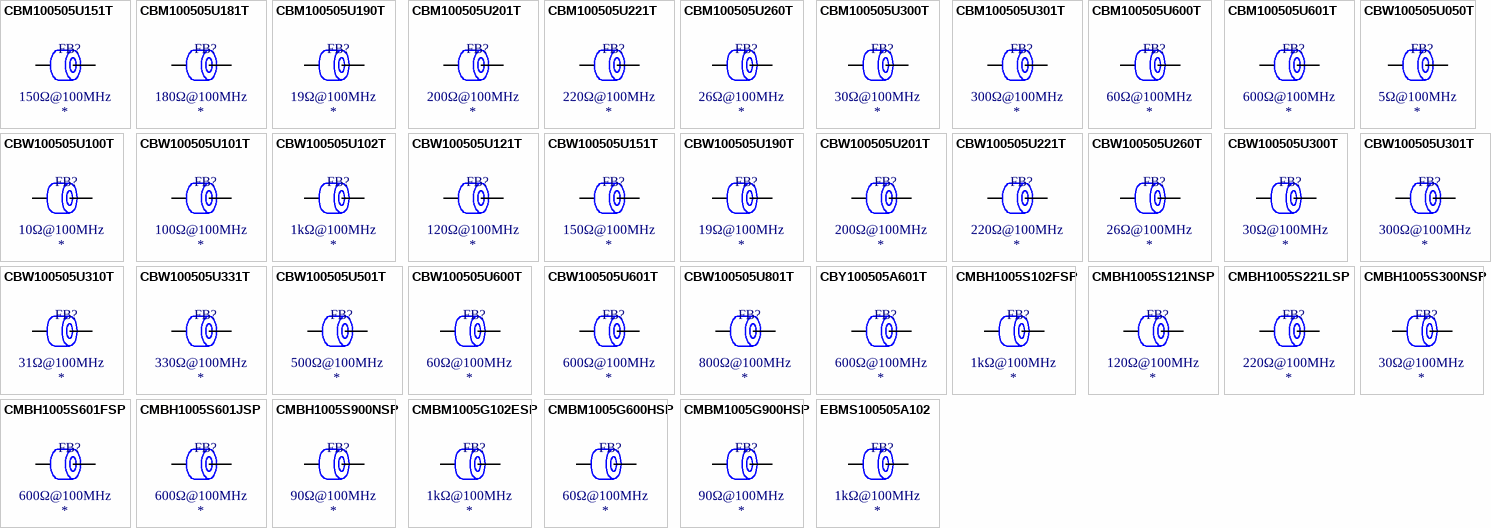
[diagram p4: symbols CBM100505U151T to EBMS100505A102]

## CBM100505U151T
designator FB?  Impedance @ Frequency: 150Ω@100MHz
Ferrite, 150Ω@100MHz, ±25%, 200mΩ, 700mA, SMD 0402; Manufacturer: FH(Guangdong Fenghua Advanced Tech); Manufacturer Part Number: CBM100505U151T; Package Size: 0402; JLCPCB Basic Part: No; JLCPCB Part Number: C394399; Supplier 1: LCSC; Category: Ferrite Beads; Supplier Part Number 1: C394399; Tolerance: ±25%; Rated Current: 700mA; DC Resistance: 200mΩ; RoHS: Yes; ComponentLink1Description: Datasheet; ComponentLink1URL: https://wmsc.lcsc.com/wmsc/upload/file/pdf/v2/lcsc/2304140030_FH--Guangdong-Fenghua-Advanced-Tech-CBM100505U151T_C394399.pdf; ComponentLink2Description: JLCPCB Part URL; ComponentLink2URL: https://jlcpcb.com/partdetail/C394399; ComponentLink3Description: LCSC Part URL; ComponentLink3URL: https://lcsc.com/product-detail/Ferrite-Beads_FH-Guangdong-Fenghua-Advanced-Tech-FH-Guangdong-Fenghua-Advanced-Tech-CBM100505U151T_C394399.html
footprint FB-0402 (0402 (1005M) Ferrite)
pins: 1, 2

## CBM100505U181T
designator FB?  Impedance @ Frequency: 180Ω@100MHz
Ferrite, 180Ω@100MHz, ±25%, SMD 0402; Manufacturer: FH(Guangdong Fenghua Advanced Tech); Manufacturer Part Number: CBM100505U181T; Package Size: 0402; JLCPCB Basic Part: No; JLCPCB Part Number: C394400; Supplier 1: LCSC; Category: Ferrite Beads; Supplier Part Number 1: C394400; Tolerance: ±25%; RoHS: Yes; ComponentLink1Description: Datasheet; ComponentLink1URL: https://wmsc.lcsc.com/wmsc/upload/file/pdf/v2/lcsc/1912111437_FH--Guangdong-Fenghua-Advanced-Tech-CBM100505U181T_C394400.pdf; ComponentLink2Description: JLCPCB Part URL; ComponentLink2URL: https://jlcpcb.com/partdetail/C394400; ComponentLink3Description: LCSC Part URL; ComponentLink3URL: https://lcsc.com/product-detail/Ferrite-Beads_FH-Guangdong-Fenghua-Advanced-Tech-FH-Guangdong-Fenghua-Advanced-Tech-CBM100505U181T_C394400.html
pins: 1, 2

## CBM100505U190T
designator FB?  Impedance @ Frequency: 19Ω@100MHz
Ferrite, 19Ω@100MHz, 60mΩ, 1.5A, SMD 0402; Manufacturer: FH(Guangdong Fenghua Advanced Tech); Manufacturer Part Number: CBM100505U190T; Package Size: 0402; JLCPCB Basic Part: No; JLCPCB Part Number: C394401; Supplier 1: LCSC; Category: Ferrite Beads; Supplier Part Number 1: C394401; Rated Current: 1.5A; DC Resistance: 60mΩ; RoHS: Yes; ComponentLink1Description: Datasheet; ComponentLink1URL: https://wmsc.lcsc.com/wmsc/upload/file/pdf/v2/lcsc/2304140030_FH--Guangdong-Fenghua-Advanced-Tech-CBM100505U190T_C394401.pdf; ComponentLink2Description: JLCPCB Part URL; ComponentLink2URL: https://jlcpcb.com/partdetail/C394401; ComponentLink3Description: LCSC Part URL; ComponentLink3URL: https://lcsc.com/product-detail/Ferrite-Beads_FH-Guangdong-Fenghua-Advanced-Tech-FH-Guangdong-Fenghua-Advanced-Tech-CBM100505U190T_C394401.html
pins: 1, 2

## CBM100505U201T
designator FB?  Impedance @ Frequency: 200Ω@100MHz
Ferrite, 200Ω@100MHz, ±25%, 250mΩ, 700mA, SMD 0402; Manufacturer: FH(Guangdong Fenghua Advanced Tech); Manufacturer Part Number: CBM100505U201T; Package Size: 0402; JLCPCB Basic Part: No; JLCPCB Part Number: C394402; Supplier 1: LCSC; Category: Ferrite Beads; Supplier Part Number 1: C394402; Tolerance: ±25%; Rated Current: 700mA; DC Resistance: 250mΩ; RoHS: Yes; ComponentLink1Description: Datasheet; ComponentLink1URL: https://wmsc.lcsc.com/wmsc/upload/file/pdf/v2/lcsc/2304140030_FH--Guangdong-Fenghua-Advanced-Tech-CBM100505U201T_C394402.pdf; ComponentLink2Description: JLCPCB Part URL; ComponentLink2URL: https://jlcpcb.com/partdetail/C394402; ComponentLink3Description: LCSC Part URL; ComponentLink3URL: https://lcsc.com/product-detail/Ferrite-Beads_FH-Guangdong-Fenghua-Advanced-Tech-FH-Guangdong-Fenghua-Advanced-Tech-CBM100505U201T_C394402.html
footprint FB-0402 (0402 (1005M) Ferrite)
pins: 1, 2